# EAGLE library part 662008230822 (library Wuerth_Elektronik_eiCan_08_Micro_Power_Connectors)
WR-MPC3 3.00mm Male Dual Row SMT Angled Header Through Hole Retention Clip, 8 Pins
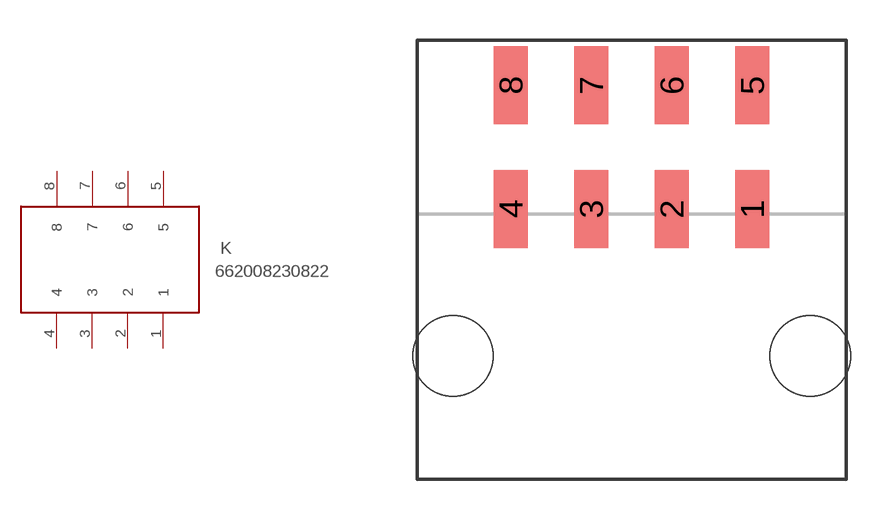
[diagram p51: symbol with the pads of 662008230822; footprint 662008230822]

Designator prefix K

## 662008230822  [662008230822]
1  1
2  2
3  3
4  4
5  5
6  6
7  7
8  8

## Footprint 662008230822 (pad centres in mm)
WR-MPC3 3.00mm Male Dual Row SMT Angled Header Through Hole Retention Clip, 8 Pins
smd 1.27 x 2.92: 1 0,-2.31; 2 -3,-2.31; 3 -6,-2.31; 4 -9,-2.31; 5 0,2.31; 6 -3,2.31; 7 -6,2.31; 8 -9,2.31
hole 3 at 2.16,-7.79
hole 3 at -11.16,-7.79